# EAGLE library part CC2500 (library chipcon-ti-v2-alliv)
Single Chip Low Cost Low Power RF Transceiver frequency band at 2400MHz-2483.5MHz.
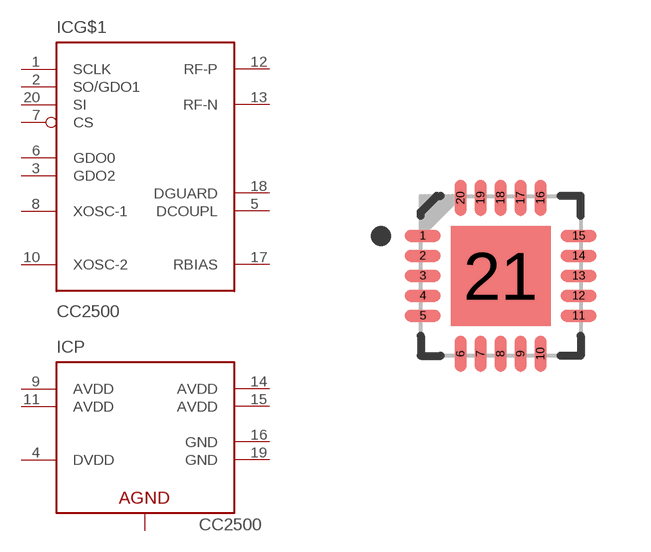
[diagram p7: symbol with the pads of QFN50P400X400X90-21N; footprint QFN50P400X400X90-21N]

Designator prefix IC; gates G$1=CC1100 P=CC1100-PWR

## CC2500  [QFN50P400X400X90-21N]
1  G$1:SCLK  in
2  G$1:SO/GDO1  out
3  G$1:GDO2  out
4  P:DVDD  pwr
5  G$1:DCOUPL  sup
6  G$1:GDO0  out
7  G$1:CS  in
8  G$1:XOSC-1  in
9  P:AVDD  pwr
10  G$1:XOSC-2  out
11  P:AVDD  pwr
12  G$1:RF-P
13  G$1:RF-N
14  P:AVDD  pwr
15  P:AVDD  pwr
16  P:GND  pwr
17  G$1:RBIAS
18  G$1:DGUARD  pwr
19  P:GND  pwr
20  G$1:SI  in
21  P:AGND  pwr

## Footprint QFN50P400X400X90-21N (pad centres in mm)
QFN,0.50mm pitch,square;20 pin,4.00mm L X 4.00mm W X 0.90mm H body (w/thermal tab) IPC7351A for VQFN20
smd 0.9 x 0.3: 1 -1.95,1; 2 -1.95,0.5; 3 -1.95,0; 4 -1.95,-0.5; 5 -1.95,-1; 11 1.95,-1; 12 1.95,-0.5; 13 1.95,0; 14 1.95,0.5; 15 1.95,1
smd 0.3 x 0.9: 6 -1,-1.95; 7 -0.5,-1.95; 8 0,-1.95; 9 0.5,-1.95; 10 1,-1.95; 16 1,1.95; 17 0.5,1.95; 18 0,1.95; 19 -0.5,1.95; 20 -1,1.95
smd 2.5 x 2.5: 21 0,0